# EAGLE library part BOARD-RADIO (library Mine)
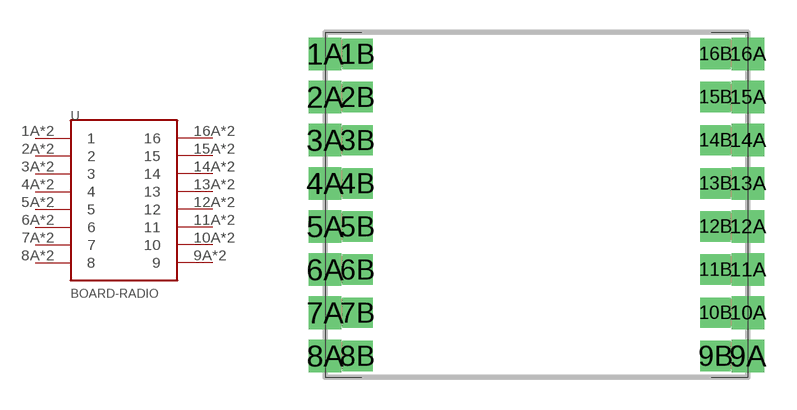
[diagram p81: symbol with the pads of BOARD-RADIO; footprint BOARD-RADIO]

Designator prefix -

## BOARD-RADIO  [BOARD-RADIO]
1A  1  pas
1B  1  pas
2A  2  pas
2B  2  pas
3A  3  pas
3B  3  pas
4A  4  pas
4B  4  pas
5A  5  pas
5B  5  pas
6A  6  pas
6B  6  pas
7A  7  pas
7B  7  pas
8A  8  pas
8B  8  pas
9A  9  pas
9B  9  pas
10A  10  pas
10B  10  pas
11A  11  pas
11B  11  pas
12A  12  pas
12B  12  pas
13A  13  pas
13B  13  pas
14A  14  pas
14B  14  pas
15A  15  pas
15B  15  pas
16A  16  pas
16B  16  pas

## Footprint BOARD-RADIO (pad centres in mm)
drill 1 pad 1.016 square: 1A 0,14; 2A 0,12; 3A 0,10; 4A 0,8; 5A 0,6; 6A 0,4; 7A 0,2; 8A 0,0; 9A 19.6,0; 10A 19.6,2; 11A 19.6,4; 12A 19.6,6; 13A 19.6,8; 14A 19.6,10; 15A 19.6,12; 16A 19.6,14
drill 0.9 pad 1.016 square: 1B 1.5,14; 2B 1.5,12; 3B 1.5,10; 4B 1.5,8; 5B 1.5,6; 6B 1.5,4; 7B 1.5,2; 8B 1.5,0; 9B 18.1,0; 10B 18.1,2; 11B 18.1,4; 12B 18.1,6; 13B 18.1,8; 14B 18.1,10; 15B 18.1,12; 16B 18.1,14